# EAGLE library part 6PIN-PLUG (library Brendan)
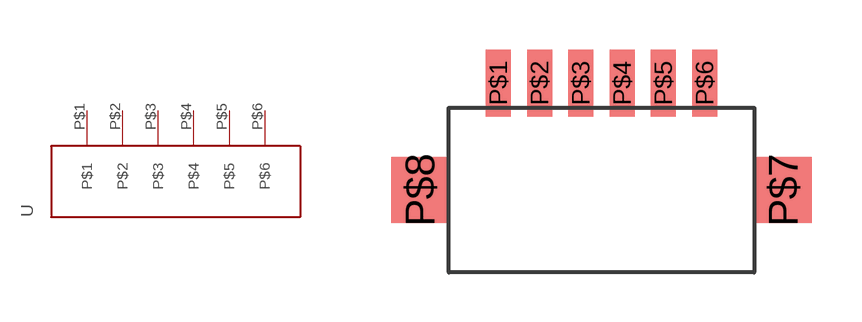
[diagram p1: symbol with the pads of 6PIN-PLUG; footprint 6PIN-PLUG]

Designator prefix -

## 6PIN-PLUG  [6PIN-PLUG]
P$1  P$1
P$2  P$2
P$3  P$3
P$4  P$4
P$5  P$5
P$6  P$6

## Footprint 6PIN-PLUG (pad centres in mm)
smd 0.762 x 2.032: P$1 -3.125,3.25; P$2 -1.875,3.25; P$3 -0.625,3.25; P$4 0.625,3.25; P$5 1.875,3.25; P$6 3.125,3.25
smd 1.75 x 2: P$7 5.5,0; P$8 -5.5,0